# EAGLE library part IPL1-116-01-XX-D (library BMS_Slave_v2)
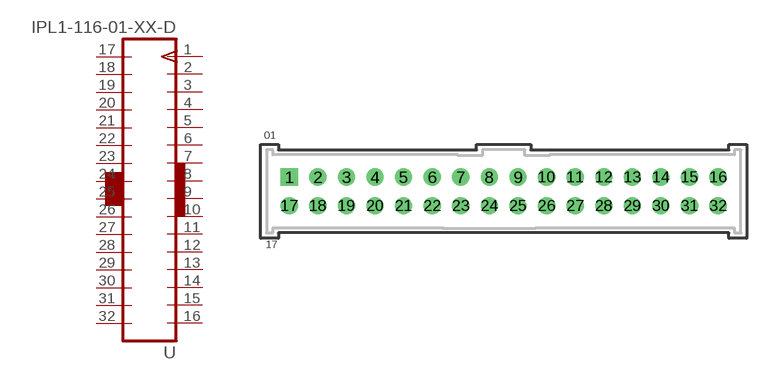
[diagram p7: symbol with the pads of IPL1-116-01-XX-D; footprint IPL1-116-01-XX-D]

Designator prefix -

## IPL1-116-01-XX-D  [IPL1-116-01-XX-D]
1  1
2  2
3  3
4  4
5  5
6  6
7  7
8  8
9  9
10  10
11  11
12  12
13  13
14  14
15  15
16  16
17  17
18  18
19  19
20  20
21  21
22  22
23  23
24  24
25  25
26  26
27  27
28  28
29  29
30  30
31  31
32  32

## Footprint IPL1-116-01-XX-D (pad centres in mm)
drill 1.02 square: 1 -19.05,1.27
drill 1.02: 2 -16.51,1.27; 3 -13.97,1.27; 4 -11.43,1.27; 5 -8.89,1.27; 6 -6.35,1.27; 7 -3.81,1.27; 8 -1.27,1.27; 9 1.27,1.27; 10 3.81,1.27; 11 6.35,1.27; 12 8.89,1.27; 13 11.43,1.27; 14 13.97,1.27; 15 16.51,1.27; 16 19.05,1.27; 17 -19.05,-1.27; 18 -16.51,-1.27; 19 -13.97,-1.27; 20 -11.43,-1.27; 21 -8.89,-1.27; 22 -6.35,-1.27; 23 -3.81,-1.27; 24 -1.27,-1.27; 25 1.27,-1.27; 26 3.81,-1.27; 27 6.35,-1.27; 28 8.89,-1.27; 29 11.43,-1.27; 30 13.97,-1.27; 31 16.51,-1.27; 32 19.05,-1.27